# Altium schematic symbol library domino-rising-cage-clamp.SchLib: 435 symbols (part 3 of 7)
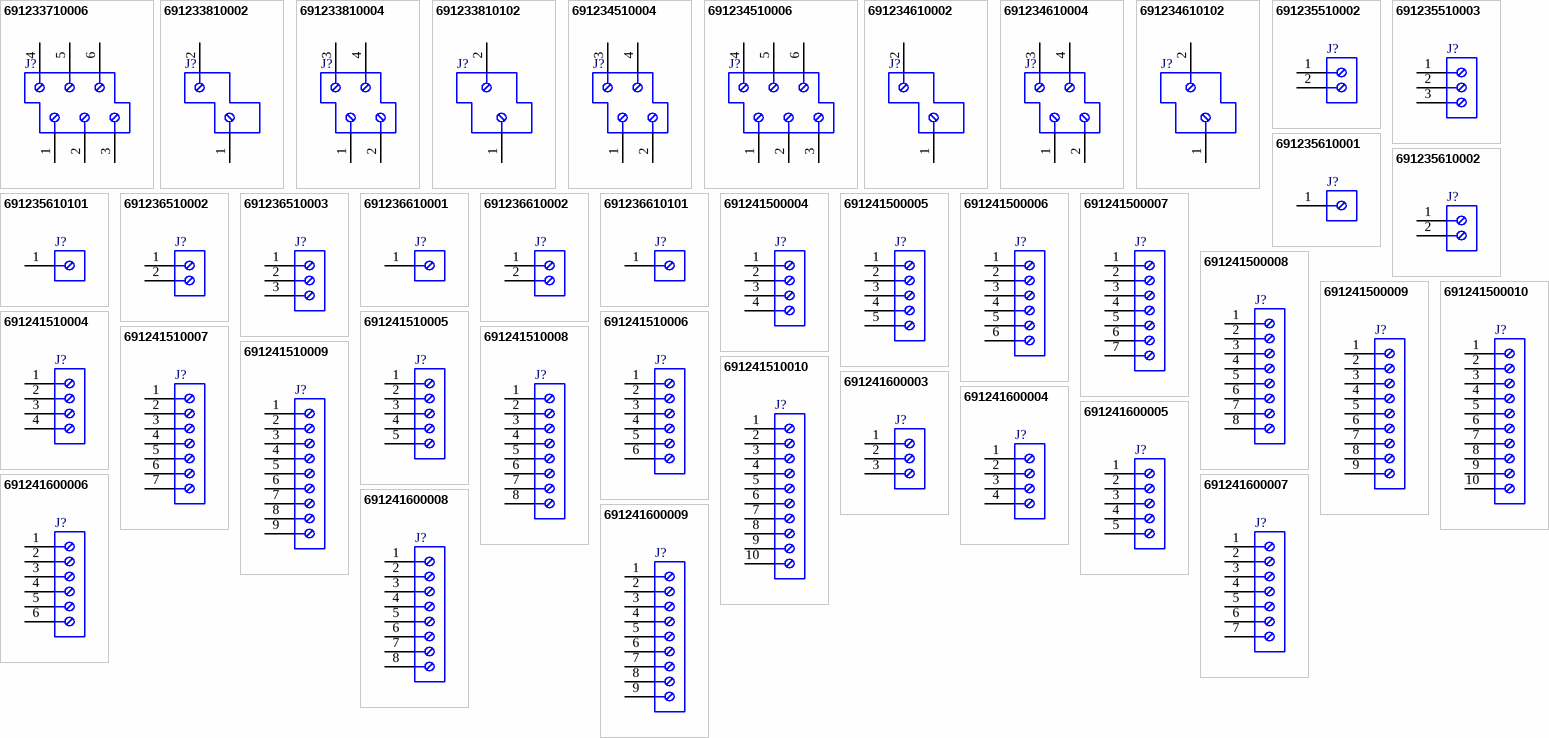
[diagram p12: symbols 691233710006 to 691241600009]

## 691236610101
designator J?
WR-TBL Serie 2366 Horizontal Entry, Rising Cage Clamp, pitch 10.16mm, 1p; Part Number: 691236610101; Compliance: Lead free / RoHS; Modularity: Yes; PCB/Cable/Panel: PCB; Pin Number: 1; Rated Current [UL]: 20A; Working Voltage [UL]: 300VAC; ComponentLink1Description: Manufacturer; ComponentLink1URL: http://www.we-online.de; ComponentLink2URL: https://katalog.we-online.de/em/datasheet/691236610101.pdf; ComponentLink2Description: Datasheet; Mounting Technology: THT; Packaging: Box; Operating Temperature: -30 to +120degC; Pitch: 10.16mm; Published Date: October 2019; Type: Horizontal; Publisher: Wurth Elektronik; Application: Rising Cage Clamp
footprint 691236610101
pins: 1

## 691241500004
designator J?
WR-TBL Serie 2415 Vertical Entry, Rising Cage Clamp, pitch 5.08mm, 4p; Part Number: 691241500004; Compliance: Lead free / RoHS; Modularity: No; PCB/Cable/Panel: PCB; Pin Number: 4; Rated Current [UL]: 14A; Working Voltage [UL]: 300VAC; ComponentLink1Description: Manufacturer; ComponentLink1URL: http://www.we-online.de; ComponentLink2URL: https://katalog.we-online.de/em/datasheet/691241500004.pdf; ComponentLink2Description: Datasheet; Mounting Technology: THT; Packaging: Box; Operating Temperature: -30 to +120degC; Pitch: 5.08mm; Published Date: October 2019; Type: Vertical; Publisher: Wurth Elektronik; Application: Rising Cage Clamp
footprint 691241500004
pins: 1, 2, 3, 4

## 691241500005
designator J?
WR-TBL Serie 2415 Vertical Entry, Rising Cage Clamp, pitch 5.08mm, 5p; Part Number: 691241500005; Compliance: Lead free / RoHS; Modularity: No; PCB/Cable/Panel: PCB; Pin Number: 5; Rated Current [UL]: 14A; Working Voltage [UL]: 300VAC; ComponentLink1Description: Manufacturer; ComponentLink1URL: http://www.we-online.de; ComponentLink2URL: https://katalog.we-online.de/em/datasheet/691241500005.pdf; ComponentLink2Description: Datasheet; Mounting Technology: THT; Packaging: Box; Operating Temperature: -30 to +120degC; Pitch: 5.08mm; Published Date: October 2019; Type: Vertical; Publisher: Wurth Elektronik; Application: Rising Cage Clamp
footprint 691241500005
pins: 1, 2, 3, 4, 5

## 691241500006
designator J?
WR-TBL Serie 2415 Vertical Entry, Rising Cage Clamp, pitch 5.08mm, 6p; Part Number: 691241500006; Compliance: Lead free / RoHS; Modularity: No; PCB/Cable/Panel: PCB; Pin Number: 6; Rated Current [UL]: 14A; Working Voltage [UL]: 300VAC; ComponentLink1Description: Manufacturer; ComponentLink1URL: http://www.we-online.de; ComponentLink2URL: https://katalog.we-online.de/em/datasheet/691241500006.pdf; ComponentLink2Description: Datasheet; Mounting Technology: THT; Packaging: Box; Operating Temperature: -30 to +120degC; Pitch: 5.08mm; Published Date: October 2019; Type: Vertical; Publisher: Wurth Elektronik; Application: Rising Cage Clamp
footprint 691241500006
pins: 1, 2, 3, 4, 5, 6

## 691241500007
designator J?
WR-TBL Serie 2415 Vertical Entry, Rising Cage Clamp, pitch 5.08mm, 7p; Part Number: 691241500007; Compliance: Lead free / RoHS; Modularity: No; PCB/Cable/Panel: PCB; Pin Number: 7; Rated Current [UL]: 14A; Working Voltage [UL]: 300VAC; ComponentLink1Description: Manufacturer; ComponentLink1URL: http://www.we-online.de; ComponentLink2URL: https://katalog.we-online.de/em/datasheet/691241500007.pdf; ComponentLink2Description: Datasheet; Mounting Technology: THT; Packaging: Box; Operating Temperature: -30 to +120degC; Pitch: 5.08mm; Published Date: October 2019; Type: Vertical; Publisher: Wurth Elektronik; Application: Rising Cage Clamp
footprint 691241500007
pins: 1, 2, 3, 4, 5, 6, 7

## 691241500008
designator J?
WR-TBL Serie 2415 Vertical Entry, Rising Cage Clamp, pitch 5.08mm, 8p; Part Number: 691241500008; Compliance: Lead free / RoHS; Modularity: No; PCB/Cable/Panel: PCB; Pin Number: 8; Rated Current [UL]: 14A; Working Voltage [UL]: 300VAC; ComponentLink1Description: Manufacturer; ComponentLink1URL: http://www.we-online.de; ComponentLink2URL: https://katalog.we-online.de/em/datasheet/691241500008.pdf; ComponentLink2Description: Datasheet; Mounting Technology: THT; Packaging: Box; Operating Temperature: -30 to +120degC; Pitch: 5.08mm; Published Date: October 2019; Type: Vertical; Publisher: Wurth Elektronik; Application: Rising Cage Clamp
footprint 691241500008
pins: 1, 2, 3, 4, 5, 6, 7, 8

## 691241500009
designator J?
WR-TBL Serie 2415 Vertical Entry, Rising Cage Clamp, pitch 5.08mm, 9p; Part Number: 691241500009; Compliance: Lead free / RoHS; Modularity: No; PCB/Cable/Panel: PCB; Pin Number: 9; Rated Current [UL]: 14A; Working Voltage [UL]: 300VAC; ComponentLink1Description: Manufacturer; ComponentLink1URL: http://www.we-online.de; ComponentLink2URL: https://katalog.we-online.de/em/datasheet/691241500009.pdf; ComponentLink2Description: Datasheet; Mounting Technology: THT; Packaging: Box; Operating Temperature: -30 to +120degC; Pitch: 5.08mm; Published Date: October 2019; Type: Vertical; Publisher: Wurth Elektronik; Application: Rising Cage Clamp
footprint 691241500009
pins: 1, 2, 3, 4, 5, 6, 7, 8, 9

## 691241500010
designator J?
WR-TBL Serie 2415 Vertical Entry, Rising Cage Clamp, pitch 5.08mm, 10p; Part Number: 691241500010; Compliance: Lead free / RoHS; Modularity: No; PCB/Cable/Panel: PCB; Pin Number: 10; Rated Current [UL]: 14A; Working Voltage [UL]: 300VAC; ComponentLink1Description: Manufacturer; ComponentLink1URL: http://www.we-online.de; ComponentLink2URL: https://katalog.we-online.de/em/datasheet/691241500010.pdf; ComponentLink2Description: Datasheet; Mounting Technology: THT; Packaging: Box; Operating Temperature: -30 to +120degC; Pitch: 5.08mm; Published Date: October 2019; Type: Vertical; Publisher: Wurth Elektronik; Application: Rising Cage Clamp
footprint 691241500010
pins: 1, 2, 3, 4, 5, 6, 7, 8, 9, 10

## 691241510004
designator J?
WR-TBL Serie 2415 Horizontal Entry Modular, Rising Cage Clamp, pitch 5.08mm, 4p; Part Number: 691241510004; Compliance: ROHS & Reach; Modularity: No; PCB/Cable/Panel: PCB; Pin Number: 4; Rated Current [UL]: 14A; Working Voltage [UL]: 300VAC; ComponentLink1Description: Manufacturer; ComponentLink1URL: http://www.we-online.de; ComponentLink2URL: https://katalog.we-online.de/em/datasheet/691241510004.pdf; ComponentLink2Description: Datasheet; Mounting Technology: THT; Packaging: Box; Operating Temperature: -30 to +120degC; Pitch: 5.08mm; Published Date: October 2019; Type: Horizontal; Publisher: Wurth Elektronik; Application: Rising Cage Clamp
footprint 691241510004
pins: 1, 2, 3, 4

## 691241510005
designator J?
WR-TBL Serie 2415 Horizontal Entry Modular, Rising Cage Clamp, pitch 5.08mm, 5p; Part Number: 691241510005; Compliance: ROHS & Reach; Modularity: No; PCB/Cable/Panel: PCB; Pin Number: 5; Rated Current [UL]: 14A; Working Voltage [UL]: 300VAC; ComponentLink1Description: Manufacturer; ComponentLink1URL: http://www.we-online.de; ComponentLink2URL: https://katalog.we-online.de/em/datasheet/691241510005.pdf; ComponentLink2Description: Datasheet; Mounting Technology: THT; Packaging: Box; Operating Temperature: -30 to +120degC; Pitch: 5.08mm; Published Date: October 2019; Type: Horizontal; Publisher: Wurth Elektronik; Application: Rising Cage Clamp
footprint 691241510005
pins: 1, 2, 3, 4, 5

## 691241510006
designator J?
WR-TBL Serie 2415 Horizontal Entry Modular, Rising Cage Clamp, pitch 5.08mm, 6p; Part Number: 691241510006; Compliance: ROHS & Reach; Modularity: No; PCB/Cable/Panel: PCB; Pin Number: 6; Rated Current [UL]: 14A; Working Voltage [UL]: 300VAC; ComponentLink1Description: Manufacturer; ComponentLink1URL: http://www.we-online.de; ComponentLink2URL: https://katalog.we-online.de/em/datasheet/691241510006.pdf; ComponentLink2Description: Datasheet; Mounting Technology: THT; Packaging: Box; Operating Temperature: -30 to +120degC; Pitch: 5.08mm; Published Date: October 2019; Type: Horizontal; Publisher: Wurth Elektronik; Application: Rising Cage Clamp
footprint 691241510006
pins: 1, 2, 3, 4, 5, 6

## 691241510007
designator J?
WR-TBL Serie 2415 Horizontal Entry Modular, Rising Cage Clamp, pitch 5.08mm, 7p; Part Number: 691241510007; Compliance: ROHS & Reach; Modularity: No; PCB/Cable/Panel: PCB; Pin Number: 7; Rated Current [UL]: 14A; Working Voltage [UL]: 300VAC; ComponentLink1Description: Manufacturer; ComponentLink1URL: http://www.we-online.de; ComponentLink2URL: https://katalog.we-online.de/em/datasheet/691241510007.pdf; ComponentLink2Description: Datasheet; Mounting Technology: THT; Packaging: Box; Operating Temperature: -30 to +120degC; Pitch: 5.08mm; Published Date: October 2019; Type: Horizontal; Publisher: Wurth Elektronik; Application: Rising Cage Clamp
footprint 691241510007
pins: 1, 2, 3, 4, 5, 6, 7

## 691241510008
designator J?
WR-TBL Serie 2415 Horizontal Entry Modular, Rising Cage Clamp, pitch 5.08mm, 8p; Part Number: 691241510008; Compliance: ROHS & Reach; Modularity: No; PCB/Cable/Panel: PCB; Pin Number: 8; Rated Current [UL]: 14A; Working Voltage [UL]: 300VAC; ComponentLink1Description: Manufacturer; ComponentLink1URL: http://www.we-online.de; ComponentLink2URL: https://katalog.we-online.de/em/datasheet/691241510008.pdf; ComponentLink2Description: Datasheet; Mounting Technology: THT; Packaging: Box; Operating Temperature: -30 to +120degC; Pitch: 5.08mm; Published Date: October 2019; Type: Horizontal; Publisher: Wurth Elektronik; Application: Rising Cage Clamp
footprint 691241510008
pins: 1, 2, 3, 4, 5, 6, 7, 8

## 691241510009
designator J?
WR-TBL Serie 2415 Horizontal Entry Modular, Rising Cage Clamp, pitch 5.08mm, 9p; Part Number: 691241510009; Compliance: ROHS & Reach; Modularity: No; PCB/Cable/Panel: PCB; Pin Number: 9; Rated Current [UL]: 14A; Working Voltage [UL]: 300VAC; ComponentLink1Description: Manufacturer; ComponentLink1URL: http://www.we-online.de; ComponentLink2URL: https://katalog.we-online.de/em/datasheet/691241510009.pdf; ComponentLink2Description: Datasheet; Mounting Technology: THT; Packaging: Box; Operating Temperature: -30 to +120degC; Pitch: 5.08mm; Published Date: October 2019; Type: Horizontal; Publisher: Wurth Elektronik; Application: Rising Cage Clamp
footprint 691241510009
pins: 1, 2, 3, 4, 5, 6, 7, 8, 9

## 691241510010
designator J?
WR-TBL Serie 2415 Horizontal Entry Modular, Rising Cage Clamp, pitch 5.08mm, 10p; Part Number: 691241510010; Compliance: ROHS & Reach; Modularity: No; PCB/Cable/Panel: PCB; Pin Number: 10; Rated Current [UL]: 14A; Working Voltage [UL]: 300VAC; ComponentLink1Description: Manufacturer; ComponentLink1URL: http://www.we-online.de; ComponentLink2URL: https://katalog.we-online.de/em/datasheet/691241510010.pdf; ComponentLink2Description: Datasheet; Mounting Technology: THT; Packaging: Box; Operating Temperature: -30 to +120degC; Pitch: 5.08mm; Published Date: October 2019; Type: Horizontal; Publisher: Wurth Elektronik; Application: Rising Cage Clamp
footprint 691241510010
pins: 1, 2, 3, 4, 5, 6, 7, 8, 9, 10

## 691241600003
designator J?
WR-TBL Serie 2416 Vertical Entry, Rising Cage Clamp, pitch 10.16mm, 3p; Part Number: 691241600003; Compliance: Lead free / RoHS; Modularity: No; PCB/Cable/Panel: PCB; Pin Number: 3; Rated Current [UL]: 14A; Working Voltage [UL]: 300VAC; ComponentLink1Description: Manufacturer; ComponentLink1URL: http://www.we-online.de; ComponentLink2URL: https://katalog.we-online.de/em/datasheet/691241600003.pdf; ComponentLink2Description: Datasheet; Mounting Technology: THT; Packaging: Box; Operating Temperature: -30 to +120degC; Pitch: 10.16mm; Published Date: October 2019; Type: Vertical; Publisher: Wurth Elektronik; Application: Rising Cage Clamp
footprint 691241600003
pins: 1, 2, 3

## 691241600004
designator J?
WR-TBL Serie 2416 Vertical Entry, Rising Cage Clamp, pitch 10.16mm, 4p; Part Number: 691241600004; Compliance: Lead free / RoHS; Modularity: No; PCB/Cable/Panel: PCB; Pin Number: 4; Rated Current [UL]: 14A; Working Voltage [UL]: 300VAC; ComponentLink1Description: Manufacturer; ComponentLink1URL: http://www.we-online.de; ComponentLink2URL: https://katalog.we-online.de/em/datasheet/691241600004.pdf; ComponentLink2Description: Datasheet; Mounting Technology: THT; Packaging: Box; Operating Temperature: -30 to +120degC; Pitch: 10.16mm; Published Date: October 2019; Type: Vertical; Publisher: Wurth Elektronik; Application: Rising Cage Clamp
footprint 691241600004
pins: 1, 2, 3, 4

## 691241600005
designator J?
WR-TBL Serie 2416 Vertical Entry, Rising Cage Clamp, pitch 10.16mm, 5p; Part Number: 691241600005; Compliance: Lead free / RoHS; Modularity: No; PCB/Cable/Panel: PCB; Pin Number: 5; Rated Current [UL]: 14A; Working Voltage [UL]: 300VAC; ComponentLink1Description: Manufacturer; ComponentLink1URL: http://www.we-online.de; ComponentLink2URL: https://katalog.we-online.de/em/datasheet/691241600005.pdf; ComponentLink2Description: Datasheet; Mounting Technology: THT; Packaging: Box; Operating Temperature: -30 to +120degC; Pitch: 10.16mm; Published Date: October 2019; Type: Vertical; Publisher: Wurth Elektronik; Application: Rising Cage Clamp
footprint 691241600005
pins: 1, 2, 3, 4, 5

## 691241600006
designator J?
WR-TBL Serie 2416 Vertical Entry, Rising Cage Clamp, pitch 10.16mm, 6p; Part Number: 691241600006; Compliance: Lead free / RoHS; Modularity: No; PCB/Cable/Panel: PCB; Pin Number: 6; Rated Current [UL]: 14A; Working Voltage [UL]: 300VAC; ComponentLink1Description: Manufacturer; ComponentLink1URL: http://www.we-online.de; ComponentLink2URL: https://katalog.we-online.de/em/datasheet/691241600006.pdf; ComponentLink2Description: Datasheet; Mounting Technology: THT; Packaging: Box; Operating Temperature: -30 to +120degC; Pitch: 10.16mm; Published Date: October 2019; Type: Vertical; Publisher: Wurth Elektronik; Application: Rising Cage Clamp
footprint 691241600006
pins: 1, 2, 3, 4, 5, 6

## 691241600007
designator J?
WR-TBL Serie 2416 Vertical Entry, Rising Cage Clamp, pitch 10.16mm, 7p; Part Number: 691241600007; Compliance: Lead free / RoHS; Modularity: No; PCB/Cable/Panel: PCB; Pin Number: 7; Rated Current [UL]: 14A; Working Voltage [UL]: 300VAC; ComponentLink1Description: Manufacturer; ComponentLink1URL: http://www.we-online.de; ComponentLink2URL: https://katalog.we-online.de/em/datasheet/691241600007.pdf; ComponentLink2Description: Datasheet; Mounting Technology: THT; Packaging: Box; Operating Temperature: -30 to +120degC; Pitch: 10.16mm; Published Date: October 2019; Type: Vertical; Publisher: Wurth Elektronik; Application: Rising Cage Clamp
footprint 691241600007
pins: 1, 2, 3, 4, 5, 6, 7

## 691241600008
designator J?
WR-TBL Serie 2416 Vertical Entry, Rising Cage Clamp, pitch 10.16mm, 8p; Part Number: 691241600008; Compliance: Lead free / RoHS; Modularity: No; PCB/Cable/Panel: PCB; Pin Number: 8; Rated Current [UL]: 14A; Working Voltage [UL]: 300VAC; ComponentLink1Description: Manufacturer; ComponentLink1URL: http://www.we-online.de; ComponentLink2URL: https://katalog.we-online.de/em/datasheet/691241600008.pdf; ComponentLink2Description: Datasheet; Mounting Technology: THT; Packaging: Box; Operating Temperature: -30 to +120degC; Pitch: 10.16mm; Published Date: October 2019; Type: Vertical; Publisher: Wurth Elektronik; Application: Rising Cage Clamp
footprint 691241600008
pins: 1, 2, 3, 4, 5, 6, 7, 8

## 691241600009
designator J?
WR-TBL Serie 2416 Vertical Entry, Rising Cage Clamp, pitch 10.16mm, 9p; Part Number: 691241600009; Compliance: Lead free / RoHS; Modularity: No; PCB/Cable/Panel: PCB; Pin Number: 9; Rated Current [UL]: 14A; Working Voltage [UL]: 300VAC; ComponentLink1Description: Manufacturer; ComponentLink1URL: http://www.we-online.de; ComponentLink2URL: https://katalog.we-online.de/em/datasheet/691241600009.pdf; ComponentLink2Description: Datasheet; Mounting Technology: THT; Packaging: Box; Operating Temperature: -30 to +120degC; Pitch: 10.16mm; Published Date: October 2019; Type: Vertical; Publisher: Wurth Elektronik; Application: Rising Cage Clamp
footprint 691241600009
pins: 1, 2, 3, 4, 5, 6, 7, 8, 9

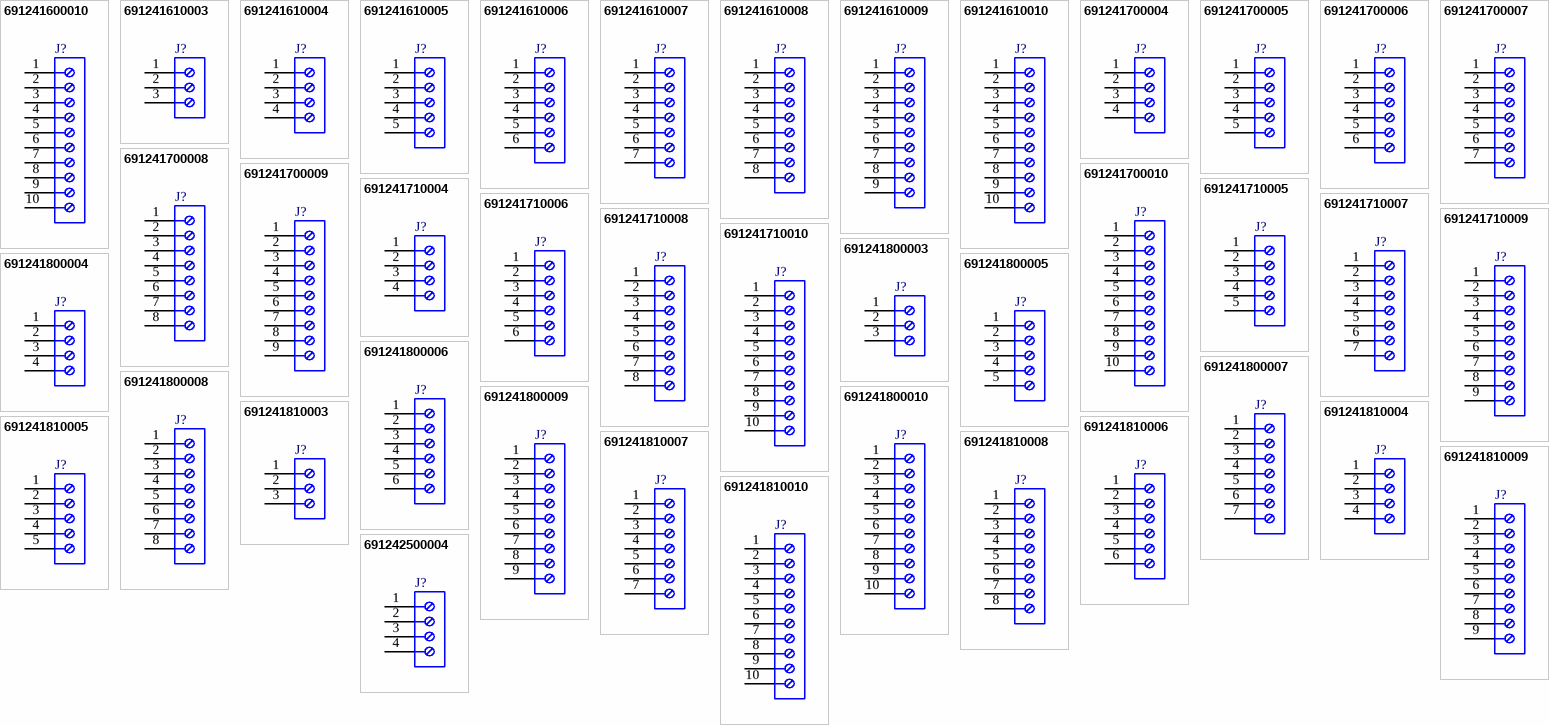
[diagram p4: symbols 691241600010 to 691242500004]

## 691241600010
designator J?
WR-TBL Serie 2416 Vertical Entry, Rising Cage Clamp, pitch 10.16mm, 10p; Part Number: 691241600010; Compliance: Lead free / RoHS; Modularity: No; PCB/Cable/Panel: PCB; Pin Number: 10; Rated Current [UL]: 14A; Working Voltage [UL]: 300VAC; ComponentLink1Description: Manufacturer; ComponentLink1URL: http://www.we-online.de; ComponentLink2URL: https://katalog.we-online.de/em/datasheet/691241600010.pdf; ComponentLink2Description: Datasheet; Mounting Technology: THT; Packaging: Box; Operating Temperature: -30 to +120degC; Pitch: 10.16mm; Published Date: October 2019; Type: Vertical; Publisher: Wurth Elektronik; Application: Rising Cage Clamp
footprint 691241600010
pins: 1, 2, 3, 4, 5, 6, 7, 8, 9, 10

## 691241610003
designator J?
WR-TBL Serie 2416 Horizontal Entry , Rising Cage Clamp, pitch 10.16mm, 3p; Part Number: 691241610003; Compliance: Lead free / RoHS; Modularity: No; PCB/Cable/Panel: PCB; Pin Number: 3; Rated Current [UL]: 14A; Working Voltage [UL]: 300VAC; ComponentLink1Description: Manufacturer; ComponentLink1URL: http://www.we-online.de; ComponentLink2URL: https://katalog.we-online.de/em/datasheet/691241610003.pdf; ComponentLink2Description: Datasheet; Mounting Technology: THT; Packaging: Box; Operating Temperature: -30 to +120degC; Pitch: 10.16mm; Published Date: October 2019; Type: Horizontal; Publisher: Wurth Elektronik; Application: Rising Cage Clamp
footprint 691241610003
pins: 1, 2, 3

## 691241610004
designator J?
WR-TBL Serie 2416 Horizontal Entry , Rising Cage Clamp, pitch 10.16mm, 4p; Part Number: 691241610004; Compliance: Lead free / RoHS; Modularity: No; PCB/Cable/Panel: PCB; Pin Number: 4; Rated Current [UL]: 14A; Working Voltage [UL]: 300VAC; ComponentLink1Description: Manufacturer; ComponentLink1URL: http://www.we-online.de; ComponentLink2URL: https://katalog.we-online.de/em/datasheet/691241610004.pdf; ComponentLink2Description: Datasheet; Mounting Technology: THT; Packaging: Box; Operating Temperature: -30 to +120degC; Pitch: 10.16mm; Published Date: October 2019; Type: Horizontal; Publisher: Wurth Elektronik; Application: Rising Cage Clamp
footprint 691241610004
pins: 1, 2, 3, 4

## 691241610005
designator J?
WR-TBL Serie 2416 Horizontal Entry , Rising Cage Clamp, pitch 10.16mm, 5p; Part Number: 691241610005; Compliance: Lead free / RoHS; Modularity: No; PCB/Cable/Panel: PCB; Pin Number: 5; Rated Current [UL]: 14A; Working Voltage [UL]: 300VAC; ComponentLink1Description: Manufacturer; ComponentLink1URL: http://www.we-online.de; ComponentLink2URL: https://katalog.we-online.de/em/datasheet/691241610005.pdf; ComponentLink2Description: Datasheet; Mounting Technology: THT; Packaging: Box; Operating Temperature: -30 to +120degC; Pitch: 10.16mm; Published Date: October 2019; Type: Horizontal; Publisher: Wurth Elektronik; Application: Rising Cage Clamp
footprint 691241610005
pins: 1, 2, 3, 4, 5

## 691241610006
designator J?
WR-TBL Serie 2416 Horizontal Entry , Rising Cage Clamp, pitch 10.16mm, 6p; Part Number: 691241610006; Compliance: Lead free / RoHS; Modularity: No; PCB/Cable/Panel: PCB; Pin Number: 6; Rated Current [UL]: 14A; Working Voltage [UL]: 300VAC; ComponentLink1Description: Manufacturer; ComponentLink1URL: http://www.we-online.de; ComponentLink2URL: https://katalog.we-online.de/em/datasheet/691241610006.pdf; ComponentLink2Description: Datasheet; Mounting Technology: THT; Packaging: Box; Operating Temperature: -30 to +120degC; Pitch: 10.16mm; Published Date: October 2019; Type: Horizontal; Publisher: Wurth Elektronik; Application: Rising Cage Clamp
footprint 691241610006
pins: 1, 2, 3, 4, 5, 6

## 691241610007
designator J?
WR-TBL Serie 2416 Horizontal Entry , Rising Cage Clamp, pitch 10.16mm, 7p; Part Number: 691241610007; Compliance: Lead free / RoHS; Modularity: No; PCB/Cable/Panel: PCB; Pin Number: 7; Rated Current [UL]: 14A; Working Voltage [UL]: 300VAC; ComponentLink1Description: Manufacturer; ComponentLink1URL: http://www.we-online.de; ComponentLink2URL: https://katalog.we-online.de/em/datasheet/691241610007.pdf; ComponentLink2Description: Datasheet; Mounting Technology: THT; Packaging: Box; Operating Temperature: -30 to +120degC; Pitch: 10.16mm; Published Date: October 2019; Type: Horizontal; Publisher: Wurth Elektronik; Application: Rising Cage Clamp
footprint 691241610007
pins: 1, 2, 3, 4, 5, 6, 7

## 691241610008
designator J?
WR-TBL Serie 2416 Horizontal Entry , Rising Cage Clamp, pitch 10.16mm, 8p; Part Number: 691241610008; Compliance: Lead free / RoHS; Modularity: No; PCB/Cable/Panel: PCB; Pin Number: 8; Rated Current [UL]: 14A; Working Voltage [UL]: 300VAC; ComponentLink1Description: Manufacturer; ComponentLink1URL: http://www.we-online.de; ComponentLink2URL: https://katalog.we-online.de/em/datasheet/691241610008.pdf; ComponentLink2Description: Datasheet; Mounting Technology: THT; Packaging: Box; Operating Temperature: -30 to +120degC; Pitch: 10.16mm; Published Date: October 2019; Type: Horizontal; Publisher: Wurth Elektronik; Application: Rising Cage Clamp
footprint 691241610008
pins: 1, 2, 3, 4, 5, 6, 7, 8

## 691241610009
designator J?
WR-TBL Serie 2416 Horizontal Entry , Rising Cage Clamp, pitch 10.16mm, 9p; Part Number: 691241610009; Compliance: Lead free / RoHS; Modularity: No; PCB/Cable/Panel: PCB; Pin Number: 9; Rated Current [UL]: 14A; Working Voltage [UL]: 300VAC; ComponentLink1Description: Manufacturer; ComponentLink1URL: http://www.we-online.de; ComponentLink2URL: https://katalog.we-online.de/em/datasheet/691241610009.pdf; ComponentLink2Description: Datasheet; Mounting Technology: THT; Packaging: Box; Operating Temperature: -30 to +120degC; Pitch: 10.16mm; Published Date: October 2019; Type: Horizontal; Publisher: Wurth Elektronik; Application: Rising Cage Clamp
footprint 691241610009
pins: 1, 2, 3, 4, 5, 6, 7, 8, 9

## 691241610010
designator J?
WR-TBL Serie 2416 Horizontal Entry , Rising Cage Clamp, pitch 10.16mm, 10p; Part Number: 691241610010; Compliance: Lead free / RoHS; Modularity: No; PCB/Cable/Panel: PCB; Pin Number: 10; Rated Current [UL]: 14A; Working Voltage [UL]: 300VAC; ComponentLink1Description: Manufacturer; ComponentLink1URL: http://www.we-online.de; ComponentLink2URL: https://katalog.we-online.de/em/datasheet/691241610010.pdf; ComponentLink2Description: Datasheet; Mounting Technology: THT; Packaging: Box; Operating Temperature: -30 to +120degC; Pitch: 10.16mm; Published Date: October 2019; Type: Horizontal; Publisher: Wurth Elektronik; Application: Rising Cage Clamp
footprint 691241610010
pins: 1, 2, 3, 4, 5, 6, 7, 8, 9, 10

## 691241700004
designator J?
WR-TBL Serie 2417 Vertical Entry, Rising Cage Clamp, pitch 5mm, 4p; Part Number: 691241700004; Compliance: Lead free / RoHS; Modularity: No; PCB/Cable/Panel: PCB; Pin Number: 4; Rated Current [UL]: 14A; Working Voltage [UL]: 300VAC; ComponentLink1Description: Manufacturer; ComponentLink1URL: http://www.we-online.de; ComponentLink2URL: https://katalog.we-online.de/em/datasheet/691241700004.pdf; ComponentLink2Description: Datasheet; Mounting Technology: THT; Packaging: Box; Operating Temperature: -30 to +120degC; Pitch: 5mm; Published Date: October 2019; Type: Vertical; Publisher: Wurth Elektronik; Application: Rising Cage Clamp
footprint 691241700004
pins: 1, 2, 3, 4

## 691241700005
designator J?
WR-TBL Serie 2417 Vertical Entry, Rising Cage Clamp, pitch 5mm, 5p; Part Number: 691241700005; Compliance: Lead free / RoHS; Modularity: No; PCB/Cable/Panel: PCB; Pin Number: 5; Rated Current [UL]: 14A; Working Voltage [UL]: 300VAC; ComponentLink1Description: Manufacturer; ComponentLink1URL: http://www.we-online.de; ComponentLink2URL: https://katalog.we-online.de/em/datasheet/691241700005.pdf; ComponentLink2Description: Datasheet; Mounting Technology: THT; Packaging: Box; Operating Temperature: -30 to +120degC; Pitch: 5mm; Published Date: October 2019; Type: Vertical; Publisher: Wurth Elektronik; Application: Rising Cage Clamp
footprint 691241700005
pins: 1, 2, 3, 4, 5

## 691241700006
designator J?
WR-TBL Serie 2417 Vertical Entry, Rising Cage Clamp, pitch 5mm, 6p; Part Number: 691241700006; Compliance: Lead free / RoHS; Modularity: No; PCB/Cable/Panel: PCB; Pin Number: 6; Rated Current [UL]: 14A; Working Voltage [UL]: 300VAC; ComponentLink1Description: Manufacturer; ComponentLink1URL: http://www.we-online.de; ComponentLink2URL: https://katalog.we-online.de/em/datasheet/691241700006.pdf; ComponentLink2Description: Datasheet; Mounting Technology: THT; Packaging: Box; Operating Temperature: -30 to +120degC; Pitch: 5mm; Published Date: October 2019; Type: Vertical; Publisher: Wurth Elektronik; Application: Rising Cage Clamp
footprint 691241700006
pins: 1, 2, 3, 4, 5, 6

## 691241700007
designator J?
WR-TBL Serie 2417 Vertical Entry, Rising Cage Clamp, pitch 5mm, 7p; Part Number: 691241700007; Compliance: Lead free / RoHS; Modularity: No; PCB/Cable/Panel: PCB; Pin Number: 7; Rated Current [UL]: 14A; Working Voltage [UL]: 300VAC; ComponentLink1Description: Manufacturer; ComponentLink1URL: http://www.we-online.de; ComponentLink2URL: https://katalog.we-online.de/em/datasheet/691241700007.pdf; ComponentLink2Description: Datasheet; Mounting Technology: THT; Packaging: Box; Operating Temperature: -30 to +120degC; Pitch: 5mm; Published Date: October 2019; Type: Vertical; Publisher: Wurth Elektronik; Application: Rising Cage Clamp
footprint 691241700007
pins: 1, 2, 3, 4, 5, 6, 7

## 691241700008
designator J?
WR-TBL Serie 2417 Vertical Entry, Rising Cage Clamp, pitch 5mm, 8p; Part Number: 691241700008; Compliance: Lead free / RoHS; Modularity: No; PCB/Cable/Panel: PCB; Pin Number: 8; Rated Current [UL]: 14A; Working Voltage [UL]: 300VAC; ComponentLink1Description: Manufacturer; ComponentLink1URL: http://www.we-online.de; ComponentLink2URL: https://katalog.we-online.de/em/datasheet/691241700008.pdf; ComponentLink2Description: Datasheet; Mounting Technology: THT; Packaging: Box; Operating Temperature: -30 to +120degC; Pitch: 5mm; Published Date: October 2019; Type: Vertical; Publisher: Wurth Elektronik; Application: Rising Cage Clamp
footprint 691241700008
pins: 1, 2, 3, 4, 5, 6, 7, 8

## 691241700009
designator J?
WR-TBL Serie 2417 Vertical Entry, Rising Cage Clamp, pitch 5mm, 9p; Part Number: 691241700009; Compliance: Lead free / RoHS; Modularity: No; PCB/Cable/Panel: PCB; Pin Number: 9; Rated Current [UL]: 14A; Working Voltage [UL]: 300VAC; ComponentLink1Description: Manufacturer; ComponentLink1URL: http://www.we-online.de; ComponentLink2URL: https://katalog.we-online.de/em/datasheet/691241700009.pdf; ComponentLink2Description: Datasheet; Mounting Technology: THT; Packaging: Box; Operating Temperature: -30 to +120degC; Pitch: 5mm; Published Date: October 2019; Type: Vertical; Publisher: Wurth Elektronik; Application: Rising Cage Clamp
footprint 691241700009
pins: 1, 2, 3, 4, 5, 6, 7, 8, 9

## 691241700010
designator J?
WR-TBL Serie 2417 Vertical Entry, Rising Cage Clamp, pitch 5mm, 10p; Part Number: 691241700010; Compliance: Lead free / RoHS; Modularity: No; PCB/Cable/Panel: PCB; Pin Number: 10; Rated Current [UL]: 14A; Working Voltage [UL]: 300VAC; ComponentLink1Description: Manufacturer; ComponentLink1URL: http://www.we-online.de; ComponentLink2URL: https://katalog.we-online.de/em/datasheet/691241700010.pdf; ComponentLink2Description: Datasheet; Mounting Technology: THT; Packaging: Box; Operating Temperature: -30 to +120degC; Pitch: 5mm; Published Date: October 2019; Type: Vertical; Publisher: Wurth Elektronik; Application: Rising Cage Clamp
footprint 691241700010
pins: 1, 2, 3, 4, 5, 6, 7, 8, 9, 10

## 691241710004
designator J?
WR-TBL Serie 2417 Horizontal Entry Modular, Rising Cage Clamp, pitch 5mm, 4p; Part Number: 691241710004; Compliance: Lead free / RoHS; Modularity: No; PCB/Cable/Panel: PCB; Pin Number: 4; Rated Current [UL]: 14A; Working Voltage [UL]: 300VAC; ComponentLink1Description: Manufacturer; ComponentLink1URL: http://www.we-online.de; ComponentLink2URL: https://katalog.we-online.de/em/datasheet/691241710004.pdf; ComponentLink2Description: Datasheet; Mounting Technology: THT; Packaging: Box; Operating Temperature: -30 to +120degC; Pitch: 5mm; Published Date: October 2019; Type: Horizontal; Publisher: Wurth Elektronik; Application: Rising Cage Clamp
footprint 691241710004
pins: 1, 2, 3, 4

## 691241710005
designator J?
WR-TBL Serie 2417 Horizontal Entry Modular, Rising Cage Clamp, pitch 5mm, 5p; Part Number: 691241710005; Compliance: Lead free / RoHS; Modularity: No; PCB/Cable/Panel: PCB; Pin Number: 5; Rated Current [UL]: 14A; Working Voltage [UL]: 300VAC; ComponentLink1Description: Manufacturer; ComponentLink1URL: http://www.we-online.de; ComponentLink2URL: https://katalog.we-online.de/em/datasheet/691241710005.pdf; ComponentLink2Description: Datasheet; Mounting Technology: THT; Packaging: Box; Operating Temperature: -30 to +120degC; Pitch: 5mm; Published Date: October 2019; Type: Horizontal; Publisher: Wurth Elektronik; Application: Rising Cage Clamp
footprint 691241710005
pins: 1, 2, 3, 4, 5

## 691241710006
designator J?
WR-TBL Serie 2417 Horizontal Entry Modular, Rising Cage Clamp, pitch 5mm, 6p; Part Number: 691241710006; Compliance: Lead free / RoHS; Modularity: No; PCB/Cable/Panel: PCB; Pin Number: 6; Rated Current [UL]: 14A; Working Voltage [UL]: 300VAC; ComponentLink1Description: Manufacturer; ComponentLink1URL: http://www.we-online.de; ComponentLink2URL: https://katalog.we-online.de/em/datasheet/691241710006.pdf; ComponentLink2Description: Datasheet; Mounting Technology: THT; Packaging: Box; Operating Temperature: -30 to +120degC; Pitch: 5mm; Published Date: October 2019; Type: Horizontal; Publisher: Wurth Elektronik; Application: Rising Cage Clamp
footprint 691241710006
pins: 1, 2, 3, 4, 5, 6

## 691241710007
designator J?
WR-TBL Serie 2417 Horizontal Entry Modular, Rising Cage Clamp, pitch 5mm, 7p; Part Number: 691241710007; Compliance: Lead free / RoHS; Modularity: No; PCB/Cable/Panel: PCB; Pin Number: 7; Rated Current [UL]: 14A; Working Voltage [UL]: 300VAC; ComponentLink1Description: Manufacturer; ComponentLink1URL: http://www.we-online.de; ComponentLink2URL: https://katalog.we-online.de/em/datasheet/691241710007.pdf; ComponentLink2Description: Datasheet; Mounting Technology: THT; Packaging: Box; Operating Temperature: -30 to +120degC; Pitch: 5mm; Published Date: October 2019; Type: Horizontal; Publisher: Wurth Elektronik; Application: Rising Cage Clamp
footprint 691241710007
pins: 1, 2, 3, 4, 5, 6, 7

## 691241710008
designator J?
WR-TBL Serie 2417 Horizontal Entry Modular, Rising Cage Clamp, pitch 5mm, 8p; Part Number: 691241710008; Compliance: Lead free / RoHS; Modularity: No; PCB/Cable/Panel: PCB; Pin Number: 8; Rated Current [UL]: 14A; Working Voltage [UL]: 300VAC; ComponentLink1Description: Manufacturer; ComponentLink1URL: http://www.we-online.de; ComponentLink2URL: https://katalog.we-online.de/em/datasheet/691241710008.pdf; ComponentLink2Description: Datasheet; Mounting Technology: THT; Packaging: Box; Operating Temperature: -30 to +120degC; Pitch: 5mm; Published Date: October 2019; Type: Horizontal; Publisher: Wurth Elektronik; Application: Rising Cage Clamp
footprint 691241710008
pins: 1, 2, 3, 4, 5, 6, 7, 8

## 691241710009
designator J?
WR-TBL Serie 2417 Horizontal Entry Modular, Rising Cage Clamp, pitch 5mm, 9p; Part Number: 691241710009; Compliance: Lead free / RoHS; Modularity: No; PCB/Cable/Panel: PCB; Pin Number: 9; Rated Current [UL]: 14A; Working Voltage [UL]: 300VAC; ComponentLink1Description: Manufacturer; ComponentLink1URL: http://www.we-online.de; ComponentLink2URL: https://katalog.we-online.de/em/datasheet/691241710009.pdf; ComponentLink2Description: Datasheet; Mounting Technology: THT; Packaging: Box; Operating Temperature: -30 to +120degC; Pitch: 5mm; Published Date: October 2019; Type: Horizontal; Publisher: Wurth Elektronik; Application: Rising Cage Clamp
footprint 691241710009
pins: 1, 2, 3, 4, 5, 6, 7, 8, 9

## 691241710010
designator J?
WR-TBL Serie 2417 Horizontal Entry Modular, Rising Cage Clamp, pitch 5mm, 10p; Part Number: 691241710010; Compliance: Lead free / RoHS; Modularity: No; PCB/Cable/Panel: PCB; Pin Number: 10; Rated Current [UL]: 14A; Working Voltage [UL]: 300VAC; ComponentLink1Description: Manufacturer; ComponentLink1URL: http://www.we-online.de; ComponentLink2URL: https://katalog.we-online.de/em/datasheet/691241710010.pdf; ComponentLink2Description: Datasheet; Mounting Technology: THT; Packaging: Box; Operating Temperature: -30 to +120degC; Pitch: 5mm; Published Date: October 2019; Type: Horizontal; Publisher: Wurth Elektronik; Application: Rising Cage Clamp
footprint 691241710010
pins: 1, 2, 3, 4, 5, 6, 7, 8, 9, 10

## 691241800003
designator J?
WR-TBL Serie 2418 Vertical Entry, Rising Cage Clamp, pitch 10mm, 3p; Part Number: 691241800003; Compliance: Lead free / RoHS; Modularity: No; PCB/Cable/Panel: PCB; Pin Number: 3; Rated Current [UL]: 14A; Working Voltage [UL]: 300VAC; ComponentLink1Description: Manufacturer; ComponentLink1URL: http://www.we-online.de; ComponentLink2URL: https://katalog.we-online.de/em/datasheet/691241800003.pdf; ComponentLink2Description: Datasheet; Mounting Technology: THT; Packaging: Box; Operating Temperature: -30 to +120degC; Pitch: 10mm; Published Date: October 2019; Type: Vertical; Publisher: Wurth Elektronik; Application: Rising Cage Clamp
footprint 691241800003
pins: 1, 2, 3

## 691241800004
designator J?
WR-TBL Serie 2418 Vertical Entry, Rising Cage Clamp, pitch 10mm, 4p; Part Number: 691241800004; Compliance: Lead free / RoHS; Modularity: No; PCB/Cable/Panel: PCB; Pin Number: 4; Rated Current [UL]: 14A; Working Voltage [UL]: 300VAC; ComponentLink1Description: Manufacturer; ComponentLink1URL: http://www.we-online.de; ComponentLink2URL: https://katalog.we-online.de/em/datasheet/691241800004.pdf; ComponentLink2Description: Datasheet; Mounting Technology: THT; Packaging: Box; Operating Temperature: -30 to +120degC; Pitch: 10mm; Published Date: October 2019; Type: Vertical; Publisher: Wurth Elektronik; Application: Rising Cage Clamp
footprint 691241800004
pins: 1, 2, 3, 4

## 691241800005
designator J?
WR-TBL Serie 2418 Vertical Entry, Rising Cage Clamp, pitch 10mm, 5p; Part Number: 691241800005; Compliance: Lead free / RoHS; Modularity: No; PCB/Cable/Panel: PCB; Pin Number: 5; Rated Current [UL]: 14A; Working Voltage [UL]: 300VAC; ComponentLink1Description: Manufacturer; ComponentLink1URL: http://www.we-online.de; ComponentLink2URL: https://katalog.we-online.de/em/datasheet/691241800005.pdf; ComponentLink2Description: Datasheet; Mounting Technology: THT; Packaging: Box; Operating Temperature: -30 to +120degC; Pitch: 10mm; Published Date: October 2019; Type: Vertical; Publisher: Wurth Elektronik; Application: Rising Cage Clamp
footprint 691241800005
pins: 1, 2, 3, 4, 5

## 691241800006
designator J?
WR-TBL Serie 2418 Vertical Entry, Rising Cage Clamp, pitch 10mm, 6p; Part Number: 691241800006; Compliance: Lead free / RoHS; Modularity: No; PCB/Cable/Panel: PCB; Pin Number: 6; Rated Current [UL]: 14A; Working Voltage [UL]: 300VAC; ComponentLink1Description: Manufacturer; ComponentLink1URL: http://www.we-online.de; ComponentLink2URL: https://katalog.we-online.de/em/datasheet/691241800006.pdf; ComponentLink2Description: Datasheet; Mounting Technology: THT; Packaging: Box; Operating Temperature: -30 to +120degC; Pitch: 10mm; Published Date: October 2019; Type: Vertical; Publisher: Wurth Elektronik; Application: Rising Cage Clamp
footprint 691241800006
pins: 1, 2, 3, 4, 5, 6

## 691241800007
designator J?
WR-TBL Serie 2418 Vertical Entry, Rising Cage Clamp, pitch 10mm, 7p; Part Number: 691241800007; Compliance: Lead free / RoHS; Modularity: No; PCB/Cable/Panel: PCB; Pin Number: 7; Rated Current [UL]: 14A; Working Voltage [UL]: 300VAC; ComponentLink1Description: Manufacturer; ComponentLink1URL: http://www.we-online.de; ComponentLink2URL: https://katalog.we-online.de/em/datasheet/691241800007.pdf; ComponentLink2Description: Datasheet; Mounting Technology: THT; Packaging: Box; Operating Temperature: -30 to +120degC; Pitch: 10mm; Published Date: October 2019; Type: Vertical; Publisher: Wurth Elektronik; Application: Rising Cage Clamp
footprint 691241800007
pins: 1, 2, 3, 4, 5, 6, 7

## 691241800008
designator J?
WR-TBL Serie 2418 Vertical Entry, Rising Cage Clamp, pitch 10mm, 8p; Part Number: 691241800008; Compliance: Lead free / RoHS; Modularity: No; PCB/Cable/Panel: PCB; Pin Number: 8; Rated Current [UL]: 14A; Working Voltage [UL]: 300VAC; ComponentLink1Description: Manufacturer; ComponentLink1URL: http://www.we-online.de; ComponentLink2URL: https://katalog.we-online.de/em/datasheet/691241800008.pdf; ComponentLink2Description: Datasheet; Mounting Technology: THT; Packaging: Box; Operating Temperature: -30 to +120degC; Pitch: 10mm; Published Date: October 2019; Type: Vertical; Publisher: Wurth Elektronik; Application: Rising Cage Clamp
footprint 691241800008
pins: 1, 2, 3, 4, 5, 6, 7, 8

## 691241800009
designator J?
WR-TBL Serie 2418 Vertical Entry, Rising Cage Clamp, pitch 10mm, 9p; Part Number: 691241800009; Compliance: Lead free / RoHS; Modularity: No; PCB/Cable/Panel: PCB; Pin Number: 9; Rated Current [UL]: 14A; Working Voltage [UL]: 300VAC; ComponentLink1Description: Manufacturer; ComponentLink1URL: http://www.we-online.de; ComponentLink2URL: https://katalog.we-online.de/em/datasheet/691241800009.pdf; ComponentLink2Description: Datasheet; Mounting Technology: THT; Packaging: Box; Operating Temperature: -30 to +120degC; Pitch: 10mm; Published Date: October 2019; Type: Vertical; Publisher: Wurth Elektronik; Application: Rising Cage Clamp
footprint 691241800009
pins: 1, 2, 3, 4, 5, 6, 7, 8, 9

## 691241800010
designator J?
WR-TBL Serie 2418 Vertical Entry, Rising Cage Clamp, pitch 10mm, 10p; Part Number: 691241800010; Compliance: Lead free / RoHS; Modularity: No; PCB/Cable/Panel: PCB; Pin Number: 10; Rated Current [UL]: 14A; Working Voltage [UL]: 300VAC; ComponentLink1Description: Manufacturer; ComponentLink1URL: http://www.we-online.de; ComponentLink2URL: https://katalog.we-online.de/em/datasheet/691241800010.pdf; ComponentLink2Description: Datasheet; Mounting Technology: THT; Packaging: Box; Operating Temperature: -30 to +120degC; Pitch: 10mm; Published Date: October 2019; Type: Vertical; Publisher: Wurth Elektronik; Application: Rising Cage Clamp
footprint 691241800010
pins: 1, 2, 3, 4, 5, 6, 7, 8, 9, 10

## 691241810003
designator J?
WR-TBL Serie 2418 Horizontal Entry, Rising Cage Clamp, pitch 10mm, 3p; Part Number: 691241810003; Compliance: Lead free / RoHS; Modularity: No; PCB/Cable/Panel: PCB; Pin Number: 3; Rated Current [UL]: 14A; Working Voltage [UL]: 300VAC; ComponentLink1Description: Manufacturer; ComponentLink1URL: http://www.we-online.de; ComponentLink2URL: https://katalog.we-online.de/em/datasheet/691241810003.pdf; ComponentLink2Description: Datasheet; Mounting Technology: THT; Packaging: Box; Operating Temperature: -30 to +120degC; Pitch: 10mm; Published Date: October 2019; Type: Horizontal; Publisher: Wurth Elektronik; Application: Rising Cage Clamp
footprint 691241810003
pins: 1, 2, 3

## 691241810004
designator J?
WR-TBL Serie 2418 Horizontal Entry, Rising Cage Clamp, pitch 10mm, 4p; Part Number: 691241810004; Compliance: Lead free / RoHS; Modularity: No; PCB/Cable/Panel: PCB; Pin Number: 4; Rated Current [UL]: 14A; Working Voltage [UL]: 300VAC; ComponentLink1Description: Manufacturer; ComponentLink1URL: http://www.we-online.de; ComponentLink2URL: https://katalog.we-online.de/em/datasheet/691241810004.pdf; ComponentLink2Description: Datasheet; Mounting Technology: THT; Packaging: Box; Operating Temperature: -30 to +120degC; Pitch: 10mm; Published Date: October 2019; Type: Horizontal; Publisher: Wurth Elektronik; Application: Rising Cage Clamp
footprint 691241810004
pins: 1, 2, 3, 4

## 691241810005
designator J?
WR-TBL Serie 2418 Horizontal Entry, Rising Cage Clamp, pitch 10mm, 5p; Part Number: 691241810005; Compliance: Lead free / RoHS; Modularity: No; PCB/Cable/Panel: PCB; Pin Number: 5; Rated Current [UL]: 14A; Working Voltage [UL]: 300VAC; ComponentLink1Description: Manufacturer; ComponentLink1URL: http://www.we-online.de; ComponentLink2URL: https://katalog.we-online.de/em/datasheet/691241810005.pdf; ComponentLink2Description: Datasheet; Mounting Technology: THT; Packaging: Box; Operating Temperature: -30 to +120degC; Pitch: 10mm; Published Date: October 2019; Type: Horizontal; Publisher: Wurth Elektronik; Application: Rising Cage Clamp
footprint 691241810005
pins: 1, 2, 3, 4, 5

## 691241810006
designator J?
WR-TBL Serie 2418 Horizontal Entry, Rising Cage Clamp, pitch 10mm, 6p; Part Number: 691241810006; Compliance: Lead free / RoHS; Modularity: No; PCB/Cable/Panel: PCB; Pin Number: 6; Rated Current [UL]: 14A; Working Voltage [UL]: 300VAC; ComponentLink1Description: Manufacturer; ComponentLink1URL: http://www.we-online.de; ComponentLink2URL: https://katalog.we-online.de/em/datasheet/691241810006.pdf; ComponentLink2Description: Datasheet; Mounting Technology: THT; Packaging: Box; Operating Temperature: -30 to +120degC; Pitch: 10mm; Published Date: October 2019; Type: Horizontal; Publisher: Wurth Elektronik; Application: Rising Cage Clamp
footprint 691241810006
pins: 1, 2, 3, 4, 5, 6

## 691241810007
designator J?
WR-TBL Serie 2418 Horizontal Entry, Rising Cage Clamp, pitch 10mm, 7p; Part Number: 691241810007; Compliance: Lead free / RoHS; Modularity: No; PCB/Cable/Panel: PCB; Pin Number: 7; Rated Current [UL]: 14A; Working Voltage [UL]: 300VAC; ComponentLink1Description: Manufacturer; ComponentLink1URL: http://www.we-online.de; ComponentLink2URL: https://katalog.we-online.de/em/datasheet/691241810007.pdf; ComponentLink2Description: Datasheet; Mounting Technology: THT; Packaging: Box; Operating Temperature: -30 to +120degC; Pitch: 10mm; Published Date: October 2019; Type: Horizontal; Publisher: Wurth Elektronik; Application: Rising Cage Clamp
footprint 691241810007
pins: 1, 2, 3, 4, 5, 6, 7

## 691241810008
designator J?
WR-TBL Serie 2418 Horizontal Entry, Rising Cage Clamp, pitch 10mm, 8p; Part Number: 691241810008; Compliance: Lead free / RoHS; Modularity: No; PCB/Cable/Panel: PCB; Pin Number: 8; Rated Current [UL]: 14A; Working Voltage [UL]: 300VAC; ComponentLink1Description: Manufacturer; ComponentLink1URL: http://www.we-online.de; ComponentLink2URL: https://katalog.we-online.de/em/datasheet/691241810008.pdf; ComponentLink2Description: Datasheet; Mounting Technology: THT; Packaging: Box; Operating Temperature: -30 to +120degC; Pitch: 10mm; Published Date: October 2019; Type: Horizontal; Publisher: Wurth Elektronik; Application: Rising Cage Clamp
footprint 691241810008
pins: 1, 2, 3, 4, 5, 6, 7, 8

## 691241810009
designator J?
WR-TBL Serie 2418 Horizontal Entry, Rising Cage Clamp, pitch 10mm, 9p; Part Number: 691241810009; Compliance: Lead free / RoHS; Modularity: No; PCB/Cable/Panel: PCB; Pin Number: 9; Rated Current [UL]: 14A; Working Voltage [UL]: 300VAC; ComponentLink1Description: Manufacturer; ComponentLink1URL: http://www.we-online.de; ComponentLink2URL: https://katalog.we-online.de/em/datasheet/691241810009.pdf; ComponentLink2Description: Datasheet; Mounting Technology: THT; Packaging: Box; Operating Temperature: -30 to +120degC; Pitch: 10mm; Published Date: October 2019; Type: Horizontal; Publisher: Wurth Elektronik; Application: Rising Cage Clamp
footprint 691241810009
pins: 1, 2, 3, 4, 5, 6, 7, 8, 9

## 691241810010
designator J?
WR-TBL Serie 2418 Horizontal Entry, Rising Cage Clamp, pitch 10mm, 10p; Part Number: 691241810010; Compliance: Lead free / RoHS; Modularity: No; PCB/Cable/Panel: PCB; Pin Number: 10; Rated Current [UL]: 14A; Working Voltage [UL]: 300VAC; ComponentLink1Description: Manufacturer; ComponentLink1URL: http://www.we-online.de; ComponentLink2URL: https://katalog.we-online.de/em/datasheet/691241810010.pdf; ComponentLink2Description: Datasheet; Mounting Technology: THT; Packaging: Box; Operating Temperature: -30 to +120degC; Pitch: 10mm; Published Date: October 2019; Type: Horizontal; Publisher: Wurth Elektronik; Application: Rising Cage Clamp
footprint 691241810010
pins: 1, 2, 3, 4, 5, 6, 7, 8, 9, 10

## 691242500004
designator J?
WR-TBL Serie 2425 Vertical Entry, Rising Cage Clamp, pitch 5.08mm, 4p; Part Number: 691242500004; Compliance: Lead free / RoHS; Modularity: No; PCB/Cable/Panel: PCB; Pin Number: 4; Rated Current [UL]: 14A; Working Voltage [UL]: 300VAC; ComponentLink1Description: Manufacturer; ComponentLink1URL: http://www.we-online.de; ComponentLink2URL: https://katalog.we-online.de/em/datasheet/691242500004.pdf; ComponentLink2Description: Datasheet; Mounting Technology: THT; Packaging: Box; Operating Temperature: -30 to +120degC; Pitch: 5.08mm; Published Date: October 2019; Type: Vertical; Publisher: Wurth Elektronik; Application: Rising Cage Clamp
footprint 691242500004
pins: 1, 2, 3, 4

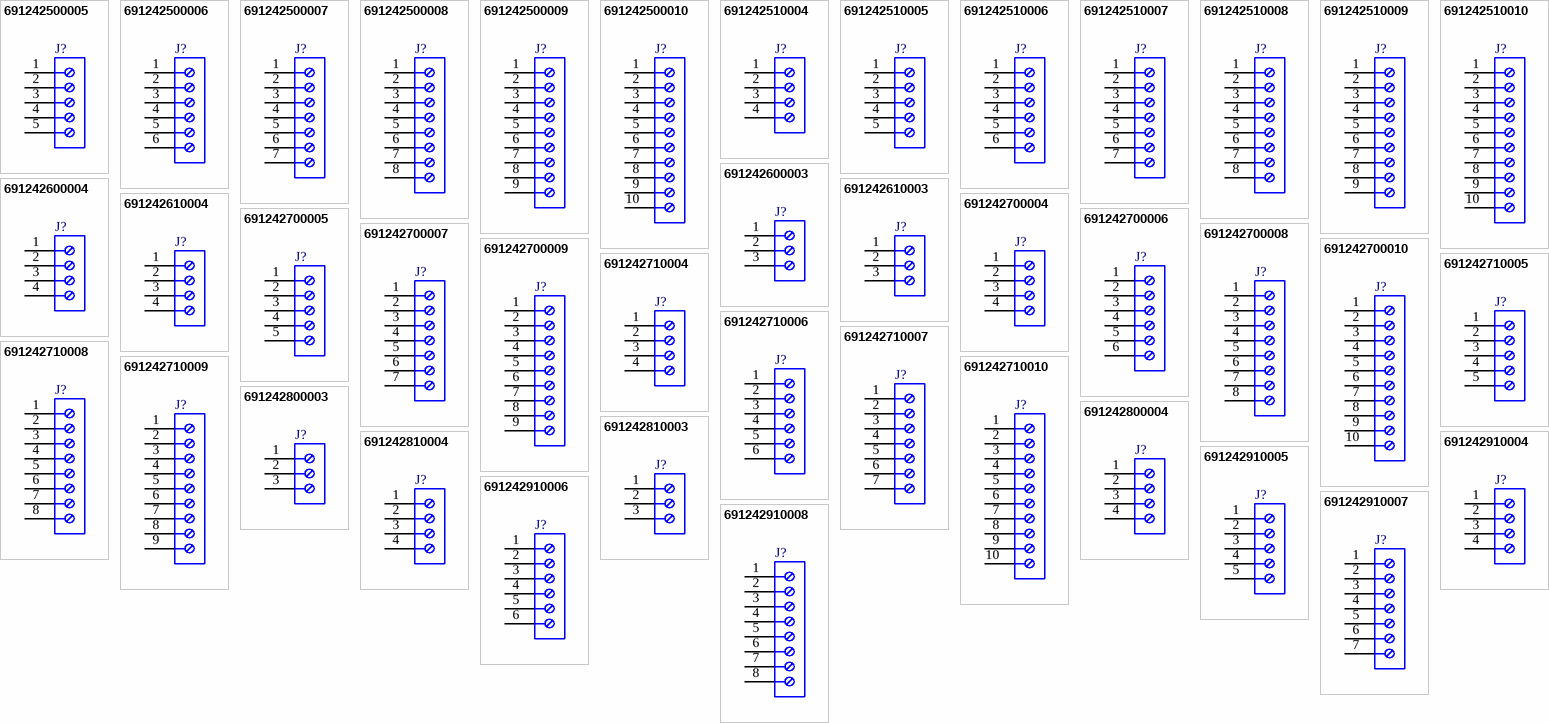
[diagram p5: symbols 691242500005 to 691242910008]

## 691242500005
designator J?
WR-TBL Serie 2425 Vertical Entry, Rising Cage Clamp, pitch 5.08mm, 5p; Part Number: 691242500005; Compliance: Lead free / RoHS; Modularity: No; PCB/Cable/Panel: PCB; Pin Number: 5; Rated Current [UL]: 14A; Working Voltage [UL]: 300VAC; ComponentLink1Description: Manufacturer; ComponentLink1URL: http://www.we-online.de; ComponentLink2URL: https://katalog.we-online.de/em/datasheet/691242500005.pdf; ComponentLink2Description: Datasheet; Mounting Technology: THT; Packaging: Box; Operating Temperature: -30 to +120degC; Pitch: 5.08mm; Published Date: October 2019; Type: Vertical; Publisher: Wurth Elektronik; Application: Rising Cage Clamp
footprint 691242500005
pins: 1, 2, 3, 4, 5

## 691242500006
designator J?
WR-TBL Serie 2425 Vertical Entry, Rising Cage Clamp, pitch 5.08mm, 6p; Part Number: 691242500006; Compliance: Lead free / RoHS; Modularity: No; PCB/Cable/Panel: PCB; Pin Number: 6; Rated Current [UL]: 14A; Working Voltage [UL]: 300VAC; ComponentLink1Description: Manufacturer; ComponentLink1URL: http://www.we-online.de; ComponentLink2URL: https://katalog.we-online.de/em/datasheet/691242500006.pdf; ComponentLink2Description: Datasheet; Mounting Technology: THT; Packaging: Box; Operating Temperature: -30 to +120degC; Pitch: 5.08mm; Published Date: October 2019; Type: Vertical; Publisher: Wurth Elektronik; Application: Rising Cage Clamp
footprint 691242500006
pins: 1, 2, 3, 4, 5, 6

## 691242500007
designator J?
WR-TBL Serie 2425 Vertical Entry, Rising Cage Clamp, pitch 5.08mm, 7p; Part Number: 691242500007; Compliance: Lead free / RoHS; Modularity: No; PCB/Cable/Panel: PCB; Pin Number: 7; Rated Current [UL]: 14A; Working Voltage [UL]: 300VAC; ComponentLink1Description: Manufacturer; ComponentLink1URL: http://www.we-online.de; ComponentLink2URL: https://katalog.we-online.de/em/datasheet/691242500007.pdf; ComponentLink2Description: Datasheet; Mounting Technology: THT; Packaging: Box; Operating Temperature: -30 to +120degC; Pitch: 5.08mm; Published Date: October 2019; Type: Vertical; Publisher: Wurth Elektronik; Application: Rising Cage Clamp
footprint 691242500007
pins: 1, 2, 3, 4, 5, 6, 7

## 691242500008
designator J?
WR-TBL Serie 2425 Vertical Entry, Rising Cage Clamp, pitch 5.08mm, 8p; Part Number: 691242500008; Compliance: Lead free / RoHS; Modularity: No; PCB/Cable/Panel: PCB; Pin Number: 8; Rated Current [UL]: 14A; Working Voltage [UL]: 300VAC; ComponentLink1Description: Manufacturer; ComponentLink1URL: http://www.we-online.de; ComponentLink2URL: https://katalog.we-online.de/em/datasheet/691242500008.pdf; ComponentLink2Description: Datasheet; Mounting Technology: THT; Packaging: Box; Operating Temperature: -30 to +120degC; Pitch: 5.08mm; Published Date: October 2019; Type: Vertical; Publisher: Wurth Elektronik; Application: Rising Cage Clamp
footprint 691242500008
pins: 1, 2, 3, 4, 5, 6, 7, 8

## 691242500009
designator J?
WR-TBL Serie 2425 Vertical Entry, Rising Cage Clamp, pitch 5.08mm, 9p; Part Number: 691242500009; Compliance: Lead free / RoHS; Modularity: No; PCB/Cable/Panel: PCB; Pin Number: 9; Rated Current [UL]: 14A; Working Voltage [UL]: 300VAC; ComponentLink1Description: Manufacturer; ComponentLink1URL: http://www.we-online.de; ComponentLink2URL: https://katalog.we-online.de/em/datasheet/691242500009.pdf; ComponentLink2Description: Datasheet; Mounting Technology: THT; Packaging: Box; Operating Temperature: -30 to +120degC; Pitch: 5.08mm; Published Date: October 2019; Type: Vertical; Publisher: Wurth Elektronik; Application: Rising Cage Clamp
footprint 691242500009
pins: 1, 2, 3, 4, 5, 6, 7, 8, 9

## 691242500010
designator J?
WR-TBL Serie 2425 Vertical Entry, Rising Cage Clamp, pitch 5.08mm, 10p; Part Number: 691242500010; Compliance: Lead free / RoHS; Modularity: No; PCB/Cable/Panel: PCB; Pin Number: 10; Rated Current [UL]: 14A; Working Voltage [UL]: 300VAC; ComponentLink1Description: Manufacturer; ComponentLink1URL: http://www.we-online.de; ComponentLink2URL: https://katalog.we-online.de/em/datasheet/691242500010.pdf; ComponentLink2Description: Datasheet; Mounting Technology: THT; Packaging: Box; Operating Temperature: -30 to +120degC; Pitch: 5.08mm; Published Date: October 2019; Type: Vertical; Publisher: Wurth Elektronik; Application: Rising Cage Clamp
footprint 691242500010
pins: 1, 2, 3, 4, 5, 6, 7, 8, 9, 10

## 691242510004
designator J?
WR-TBL Serie 2425 Horizontal Entry Modular, Rising Cage Clamp, pitch 5.08mm, 4p; Part Number: 691242510004; Compliance: ROHS & Reach; Modularity: No; PCB/Cable/Panel: PCB; Pin Number: 4; Rated Current [UL]: 14A; Working Voltage [UL]: 300VAC; ComponentLink1Description: Manufacturer; ComponentLink1URL: http://www.we-online.de; ComponentLink2URL: https://katalog.we-online.de/em/datasheet/691242510004.pdf; ComponentLink2Description: Datasheet; Mounting Technology: THT; Packaging: Box; Operating Temperature: -30 to +120degC; Pitch: 5.08mm; Published Date: October 2019; Type: Horizontal; Publisher: Wurth Elektronik; Application: Rising Cage Clamp
footprint 691242510004
pins: 1, 2, 3, 4